# Altium schematic symbol library ESD7008MUTAG.SchLib: 1 symbol
Pins are listed as number, name and electrical type; pins without a type are passive.

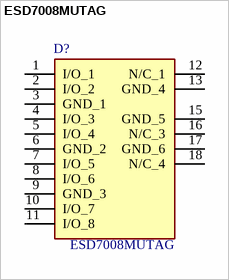
[diagram p0: symbol ESD7008MUTAG]

## ESD7008MUTAG
designator D?
10V Clamp Ipp Tvs Diode Surface Mount 18-UDFN (5.5x1.5); Manufacturer_Name: onsemi; Geometry.Height: 0.55mm; Mouser Part Number: 863-ESD7008MUTAG; Mouser Price/Stock: https://www.mouser.co.uk/ProductDetail/onsemi/ESD7008MUTAG?qs=Gud3nhECO%2Fs1qvAxYTTX5w%3D%3D; Manufacturer_Part_Number: ESD7008MUTAG; Datasheet Link: http://www.onsemi.com/pub/Collateral/ESD7008-D.PDF
footprint ESD7008MUTAG
pins: 1 I/O_1, 2 I/O_2, 3 GND_1, 4 I/O_3, 5 I/O_4, 6 GND_2, 7 I/O_5, 8 I/O_6, 9 GND_3, 10 I/O_7, 11 I/O_8, 12 N/C_1, 13 GND_4, 15 GND_5, 16 N/C_3, 17 GND_6, 18 N/C_4